# Altium schematic symbol library ADR45XX.SchLib: 1 symbol
Pins are listed as number, name and electrical type; pins without a type are passive.

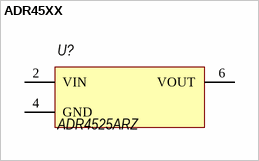
[diagram p0: symbol ADR45XX]

## ADR45XX
designator U?, comment ADR4525ARZ
2.5v voltage reference
footprint SOP8
pins: 2 VIN, 4 GND, 6 VOUT